# Altium footprint library WR-MPC5.PcbLib: 52 footprints (part 2 of 4)
Each footprint in its own frame and in the unit in brackets; x right, y up, seen from the top. Pads: shape width x height; smd on the part's side, far side on the other; paste and mask are expansions set on the pad; w line width, h text height; cw(c..) or ccw(c..) is an arc to the next point about the centre after c.
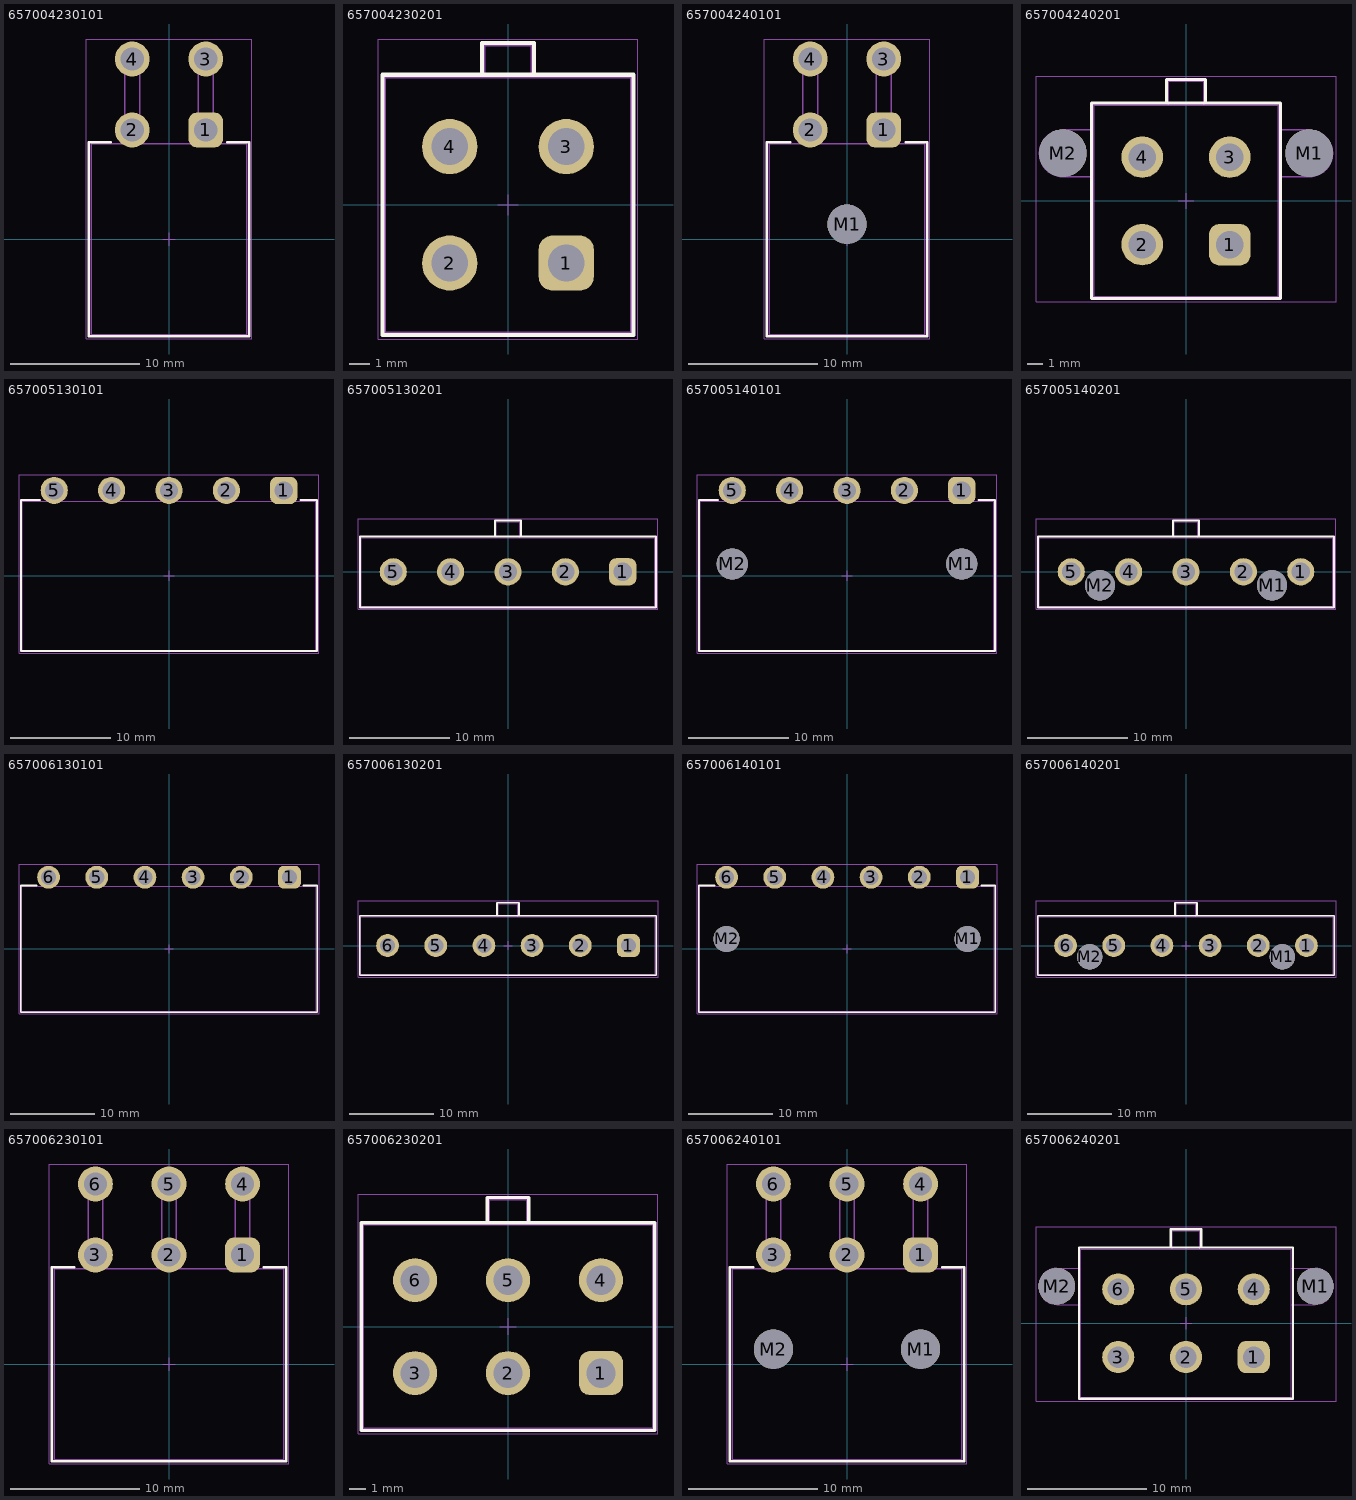
[diagram p1: the footprints below, top view; thin cyan lines are the x and y axes]

## 657004230101 [mm] "Dual Row Male Header Right Angled, GW, THT, 04p"
height 14.53
pads (4):
  rrect50% 2.7x2.7 hole 1.8: 1(2.85,8.47)
  round 2.7 hole 1.8: 2(-2.85,8.47) 3(2.85,13.97) 4(-2.85,13.97)
Top Overlay:
  lines w0.2: -4.5,7.525 -6.225,7.525 -6.225,-7.525 6.225,-7.525 6.225,7.525 4.5,7.525
Top Designator:
  text ".Designator" at -7.498,-0.5 h1.5
Top Component Outline:
  lines w0.1: -3.42,7.4 -3.42,14.54 -2.28,14.54 -2.28,7.4 ; -3.42,9.04 -2.28,9.04 ; 2.28,7.4 2.28,14.54 3.42,14.54 3.42,7.4 ; 2.28,9.04 3.42,9.04 ; -6.025,-7.4 6.025,-7.4 6.025,7.4 -6.025,7.4 -6.025,-7.4
Top Courtyard:
  lines w0.05: -6.425,-7.725 -6.425,15.52 6.425,15.52 6.425,-7.725 -6.425,-7.725
Top Component Center:
  lines w0.05: -0.5,0 0.5,0 ; 0,-0.5 0,0.5
3D body "657004230101.stp": height 14.69, standoff -3.44, extent -6.025,-7.4 6.025,14.54

## 657004230201 [mm] "THT Dual Row Male Header Vertical, 04p"
height 14.8
pads (4):
  rrect50% 2.7x2.7 hole 1.8: 1(2.85,-2.85)
  round 2.7 hole 1.8: 2(-2.85,-2.85) 3(2.85,2.85) 4(-2.85,2.85)
Top Overlay:
  lines w0.2: -1.275,6.365 -1.275,7.915 1.275,7.915 1.275,6.365 ; -6.15,-6.365 -6.15,6.365 6.15,6.365 6.15,-6.365 -6.15,-6.365
Top Designator:
  text ".Designator" at -7.498,-0.5 h1.5
Top Component Outline:
  lines w0.1: -1.15,6.24 -1.15,7.79 1.15,7.79 1.15,6.24 ; -6.025,-6.24 -6.025,6.24 6.025,6.24 6.025,-6.24 -6.025,-6.24
Top Courtyard:
  lines w0.05: -6.35,-6.565 6.35,-6.565 6.35,8.115 -6.35,8.115 -6.35,-6.565
Top Component Center:
  lines w0.05: -0.5,0 0.5,0 ; 0,-0.5 0,0.5
3D body "657004230201.stp": height 14.85, standoff -3.65, extent -6.025,-6.24 6.025,7.79

## 657004240101 [mm] "Dual Row Male Header Right Angled, GW, THT, 04p"
height 14.53
pads (5):
  rrect50% 2.7x2.7 hole 1.8: 1(2.85,8.47)
  round 2.7 hole 1.8: 2(-2.85,8.47) 3(2.85,13.97) 4(-2.85,13.97)
  round 3.05 hole 3.05 unplated: M1(0,1.17)
Top Overlay:
  lines w0.2: -4.4,7.525 -6.225,7.525 -6.225,-7.525 6.225,-7.525 6.225,7.525 4.55,7.525
Top Designator:
  text ".Designator" at -7.498,-0.5 h1.5
Top Component Outline:
  lines w0.1: -3.42,7.4 -3.42,14.54 -2.28,14.54 -2.28,7.4 ; -3.42,9.04 -2.28,9.04 ; 2.28,7.4 2.28,14.54 3.42,14.54 3.42,7.4 ; 2.28,9.04 3.42,9.04 ; -6.025,-7.4 6.025,-7.4 6.025,7.4 -6.025,7.4 -6.025,-7.4
Top Courtyard:
  lines w0.05: -6.425,-7.725 -6.425,15.52 6.425,15.52 6.425,-7.725 -6.425,-7.725
Top Component Center:
  lines w0.05: -0.5,0 0.5,0 ; 0,-0.5 0,0.5
3D body "657004240101.stp": height 14.69, standoff -3.44, extent -6.025,-7.4 6.025,14.54

## 657004240201 [mm] "THT Dual Row Male Header Vertical with Pegs, 04p"
height 14.8
pads (6):
  rrect50% 2.7x2.7 hole 1.8: 1(2.85,-2.85)
  round 2.7 hole 1.8: 2(-2.85,-2.85) 3(2.85,2.85) 4(-2.85,2.85)
  round 3.1 hole 3.1 unplated: M1(8.02,3.11) M2(-8.02,3.11)
Top Overlay:
  lines w0.2: -1.275,6.365 -1.275,7.915 1.275,7.915 1.275,6.365 ; -6.15,-6.365 -6.15,6.365 6.15,6.365 6.15,-6.365 -6.15,-6.365
Top Designator:
  text ".Designator" at -7.498,-0.5 h1.5
Top Component Outline:
  lines w0.1: -9.542,3 cw(c-8.015,3.09) -8.015,4.62 -6.025,4.62 ; -9.542,3.19 ccw(c-8.015,3.1) -8.015,1.57 -6.025,1.57 ; -1.15,6.24 -1.15,7.79 1.15,7.79 1.15,6.24 ; 6.025,1.57 8.015,1.57 ccw(c8.015,3.1) 9.542,3.19 ; 6.025,4.62 8.015,4.62 cw(c8.015,3.09) 9.542,3 ; -6.025,-6.24 -6.025,6.24 6.025,6.24 6.025,-6.24 -6.025,-6.24
Top Courtyard:
  lines w0.05: -9.77,-6.565 9.77,-6.565 9.77,8.115 -9.77,8.115 -9.77,-6.565
Top Component Center:
  lines w0.05: -0.5,0 0.5,0 ; 0,-0.5 0,0.5
3D body "657004240201.stp": height 14.85, standoff -3.65, extent -9.55,-6.24 9.55,7.79

## 657005130101 [mm] "THT Single Row Male Header Right Angled, 05p"
height 7.25
pads (5):
  rrect50% 2.7x2.7 hole 1.8: 1(11.4,8.47)
  round 2.7 hole 1.8: 2(5.7,8.47) 3(0,8.47) 4(-5.7,8.47) 5(-11.4,8.47)
Top Overlay:
  lines w0.2: -12.8,7.5 -14.7,7.5 -14.7,-7.5 14.7,-7.5 14.7,7.5 13.05,7.5
Top Designator:
  text ".Designator" at -7.498,-0.5 h1.5
Top Component Outline:
  lines w0.1: -11.97,7.4 -11.97,9.04 -10.83,9.04 -10.83,7.4 ; -6.27,7.4 -6.27,9.04 -5.13,9.04 -5.13,7.4 ; -0.57,7.4 -0.57,9.04 0.57,9.04 0.57,7.4 ; 5.13,7.4 5.13,9.04 6.27,9.04 6.27,7.4 ; 10.83,7.4 10.83,9.04 11.97,9.04 11.97,7.4 ; -14.575,-7.4 14.575,-7.4 14.575,7.4 -14.575,7.4 -14.575,-7.4
Top Courtyard:
  lines w0.05: -14.9,-7.7 -14.9,10.02 14.9,10.02 14.9,-7.7 -14.9,-7.7
Top Component Center:
  lines w0.05: -0.5,0 0.5,0 ; 0,-0.5 0,0.5
3D body "657005130101.stp": height 8.85, standoff -3.43, extent -14.575,-7.4 14.575,9.04

## 657005130201 [mm] "Single Row Male Header Vertical, 05p"
height 15.3
pads (5):
  rrect50% 2.7x2.7 hole 1.8: 1(11.4,0)
  round 2.7 hole 1.8: 2(5.7,0) 3(0,0) 4(-5.7,0) 5(-11.4,0)
Top Overlay:
  lines w0.2: -1.3,3.525 -1.3,5.075 1.3,5.075 1.3,3.525 ; -14.7,-3.525 14.7,-3.525 14.7,3.525 -14.7,3.525 -14.7,-3.525
Top Designator:
  text ".Designator" at -7.498,-0.5 h1.5
Top Component Outline:
  lines w0.1: -1.175,3.4 -1.175,4.95 1.175,4.95 1.175,3.4 ; -14.575,-3.4 14.575,-3.4 14.575,3.4 -14.575,3.4 -14.575,-3.4
Top Courtyard:
  lines w0.05: -14.9,-3.725 -14.9,5.275 14.9,5.275 14.9,-3.725 -14.9,-3.725
Top Component Center:
  lines w0.05: -0.5,0 0.5,0 ; 0,-0.5 0,0.5
3D body "657005130201.stp": height 15.35, standoff -3.15, extent -14.575,-3.4 14.575,4.95

## 657005140101 [mm] "THT Single Row Male Header Right Angled, 05p"
height 7.25
pads (7):
  rrect50% 2.7x2.7 hole 1.8: 1(11.4,8.47)
  round 2.7 hole 1.8: 2(5.7,8.47) 3(0,8.47) 4(-5.7,8.47) 5(-11.4,8.47)
  round 3.1 hole 3.1 unplated: M1(11.4,1.17) M2(-11.4,1.17)
Top Overlay:
  lines w0.2: -12.8,7.5 -14.7,7.5 -14.7,-7.5 14.7,-7.5 14.7,7.5 13.05,7.5
Top Designator:
  text ".Designator" at -7.498,-0.5 h1.5
Top Component Outline:
  lines w0.1: -11.97,7.4 -11.97,9.04 -10.83,9.04 -10.83,7.4 ; -6.27,7.4 -6.27,9.04 -5.13,9.04 -5.13,7.4 ; -0.57,7.4 -0.57,9.04 0.57,9.04 0.57,7.4 ; 5.13,7.4 5.13,9.04 6.27,9.04 6.27,7.4 ; 10.83,7.4 10.83,9.04 11.97,9.04 11.97,7.4 ; -14.575,-7.4 -14.575,7.4 14.575,7.4 14.575,-7.4 -14.575,-7.4
Top Courtyard:
  lines w0.05: -14.9,-7.7 14.9,-7.7 14.9,10.02 -14.9,10.02 -14.9,-7.7
Top Component Center:
  lines w0.05: -0.5,0 0.5,0 ; 0,-0.5 0,0.5
3D body "657005140101.stp": height 8.85, standoff -3.43, extent -14.575,-7.4 14.575,9.04

## 657005140201 [mm] "Single Row Male Header Vertical, 05p"
height 15.3
pads (7):
  round 2.7 hole 1.8: 1(11.4,0) 2(5.7,0) 3(0,0) 4(-5.7,0) 5(-11.4,0)
  round 3 hole 3 unplated: M1(8.55,-1.34) M2(-8.55,-1.34)
Top Overlay:
  lines w0.2: -1.3,3.525 -1.3,5.075 1.3,5.075 1.3,3.525 ; -14.7,-3.525 -14.7,3.525 14.7,3.525 14.7,-3.525 -14.7,-3.525
Top Designator:
  text ".Designator" at -7.498,-0.5 h1.5
Top Component Outline:
  lines w0.1: -1.175,3.4 -1.175,4.95 1.175,4.95 1.175,3.4 ; -14.575,-3.4 -14.575,3.4 14.575,3.4 14.575,-3.4 -14.575,-3.4
Top Courtyard:
  lines w0.05: -14.9,-3.725 14.9,-3.725 14.9,5.275 -14.9,5.275 -14.9,-3.725
Top Component Center:
  lines w0.05: -0.5,0 0.5,0 ; 0,-0.5 0,0.5
3D body "657005140201.stp": height 15.35, standoff -3.15, extent -14.575,-3.4 14.575,4.95

## 657006130101 [mm] "THT Single Row Male Header Right Angled, 06p"
height 7.25
pads (6):
  rrect50% 2.7x2.7 hole 1.8: 1(14.25,8.47)
  round 2.7 hole 1.8: 2(8.55,8.47) 3(2.85,8.47) 4(-2.85,8.47) 5(-8.55,8.47) 6(-14.25,8.47)
Top Overlay:
  lines w0.2: -15.65,7.5 -17.55,7.5 -17.55,-7.5 17.55,-7.5 17.55,7.5 15.9,7.5
Top Designator:
  text ".Designator" at -7.498,-0.5 h1.5
Top Component Outline:
  lines w0.1: -14.82,7.4 -14.82,9.04 -13.68,9.04 -13.68,7.4 ; -9.12,7.4 -9.12,9.04 -7.98,9.04 -7.98,7.4 ; -3.42,7.4 -3.42,9.04 -2.28,9.04 -2.28,7.4 ; 2.28,7.4 2.28,9.04 3.42,9.04 3.42,7.4 ; 7.98,7.4 7.98,9.04 9.12,9.04 9.12,7.4 ; 13.68,7.4 13.68,9.04 14.82,9.04 14.82,7.4 ; -17.425,-7.4 -17.425,7.4 17.425,7.4 17.425,-7.4 -17.425,-7.4
Top Courtyard:
  lines w0.05: -17.75,-7.7 17.75,-7.7 17.75,10.02 -17.75,10.02 -17.75,-7.7
Top Component Center:
  lines w0.05: -0.5,0 0.5,0 ; 0,-0.5 0,0.5
3D body "657006130101.stp": height 8.85, standoff -3.43, extent -17.425,-7.4 17.425,9.04

## 657006130201 [mm] "Single Row Male Header Vertical, 06p"
height 15.3
pads (6):
  rrect50% 2.7x2.7 hole 1.8: 1(14.25,0)
  round 2.7 hole 1.8: 2(8.55,0) 3(2.85,0) 4(-2.85,0) 5(-8.55,0) 6(-14.25,0)
Top Overlay:
  lines w0.2: -1.3,3.525 -1.3,5.075 1.3,5.075 1.3,3.525 ; -17.55,-3.525 17.55,-3.525 17.55,3.525 -17.55,3.525 -17.55,-3.525
Top Designator:
  text ".Designator" at -7.498,-0.5 h1.5
Top Component Outline:
  lines w0.1: -1.175,3.4 -1.175,4.95 1.175,4.95 1.175,3.4 ; -17.425,-3.4 17.425,-3.4 17.425,3.4 -17.425,3.4 -17.425,-3.4
Top Courtyard:
  lines w0.05: -17.75,-3.725 -17.75,5.275 17.75,5.275 17.75,-3.725 -17.75,-3.725
Top Component Center:
  lines w0.05: -0.5,0 0.5,0 ; 0,-0.5 0,0.5
3D body "657006130201.stp": height 15.35, standoff -3.15, extent -17.425,-3.4 17.425,4.95

## 657006140101 [mm] "THT Single Row Male Header Right Angled, 06p"
height 7.25
pads (8):
  rrect50% 2.7x2.7 hole 1.8: 1(14.25,8.47)
  round 2.7 hole 1.8: 2(8.55,8.47) 3(2.85,8.47) 4(-2.85,8.47) 5(-8.55,8.47) 6(-14.25,8.47)
  round 3.1 hole 3.1 unplated: M1(14.25,1.17) M2(-14.25,1.17)
Top Overlay:
  lines w0.2: -15.65,7.5 -17.55,7.5 -17.55,-7.5 17.55,-7.5 17.55,7.5 15.9,7.5
Top Designator:
  text ".Designator" at -7.498,-0.5 h1.5
Top Component Outline:
  lines w0.1: -14.82,7.4 -14.82,9.04 -13.68,9.04 -13.68,7.4 ; -9.12,7.4 -9.12,9.04 -7.98,9.04 -7.98,7.4 ; -3.42,7.4 -3.42,9.04 -2.28,9.04 -2.28,7.4 ; 2.28,7.4 2.28,9.04 3.42,9.04 3.42,7.4 ; 7.98,7.4 7.98,9.04 9.12,9.04 9.12,7.4 ; 13.68,7.4 13.68,9.04 14.82,9.04 14.82,7.4 ; -17.425,-7.4 17.425,-7.4 17.425,7.4 -17.425,7.4 -17.425,-7.4
Top Courtyard:
  lines w0.05: -17.75,-7.7 -17.75,10.02 17.75,10.02 17.75,-7.7 -17.75,-7.7
Top Component Center:
  lines w0.05: -0.5,0 0.5,0 ; 0,-0.5 0,0.5
3D body "657006140101.stp": height 8.85, standoff -3.43, extent -17.425,-7.4 17.425,9.04

## 657006140201 [mm] "Single Row Male Header Vertical, 06p"
height 15.3
pads (8):
  round 2.7 hole 1.8: 1(14.25,0) 2(8.55,0) 3(2.85,0) 4(-2.85,0) 5(-8.55,0) 6(-14.25,0)
  round 3 hole 3 unplated: M1(11.4,-1.34) M2(-11.4,-1.34)
Top Overlay:
  lines w0.2: -1.3,3.525 -1.3,5.075 1.3,5.075 1.3,3.525 ; -17.55,-3.525 17.55,-3.525 17.55,3.525 -17.55,3.525 -17.55,-3.525
Top Designator:
  text ".Designator" at -7.498,-0.5 h1.5
Top Component Outline:
  lines w0.1: -1.175,3.4 -1.175,4.95 1.175,4.95 1.175,3.4 ; -17.425,-3.4 17.425,-3.4 17.425,3.4 -17.425,3.4 -17.425,-3.4
Top Courtyard:
  lines w0.05: -17.75,-3.725 -17.75,5.275 17.75,5.275 17.75,-3.725 -17.75,-3.725
Top Component Center:
  lines w0.05: -0.5,0 0.5,0 ; 0,-0.5 0,0.5
3D body "657006140201.stp": height 15.35, standoff -3.15, extent -17.425,-3.4 17.425,4.95

## 657006230101 [mm] "Dual Row Male Header Right Angled, GW, THT, 06p"
height 14.53
pads (6):
  rrect50% 2.7x2.7 hole 1.8: 1(5.7,8.47)
  round 2.7 hole 1.8: 2(0,8.47) 3(-5.7,8.47) 4(5.7,13.97) 5(0,13.97) 6(-5.7,13.97)
Top Overlay:
  lines w0.2: -7.35,7.525 -9.075,7.525 -9.075,-7.525 9.075,-7.525 9.075,7.525 7.35,7.525
Top Designator:
  text ".Designator" at -7.498,-0.5 h1.5
Top Component Outline:
  lines w0.1: -6.27,7.4 -6.27,14.54 -5.13,14.54 -5.13,7.4 ; -6.27,9.04 -5.13,9.04 ; -0.57,7.4 -0.57,14.54 0.57,14.54 0.57,7.4 ; -0.57,9.04 0.57,9.04 ; 5.13,7.4 5.13,14.54 6.27,14.54 6.27,7.4 ; 5.13,9.04 6.27,9.04 ; -8.875,-7.4 -8.875,7.4 8.875,7.4 8.875,-7.4 -8.875,-7.4
Top Courtyard:
  lines w0.05: -9.275,-7.725 9.275,-7.725 9.275,15.52 -9.275,15.52 -9.275,-7.725
Top Component Center:
  lines w0.05: -0.5,0 0.5,0 ; 0,-0.5 0,0.5
3D body "657006230101.stp": height 14.69, standoff -3.44, extent -8.875,-7.4 8.875,14.54

## 657006230201 [mm] "THT Dual Row Male Header Vertical, 06p"
height 14.8
pads (6):
  rrect50% 2.7x2.7 hole 1.8: 1(5.7,-2.85)
  round 2.7 hole 1.8: 2(0,-2.85) 3(-5.7,-2.85) 4(5.7,2.85) 5(0,2.85) 6(-5.7,2.85)
Top Overlay:
  lines w0.2: -1.275,6.365 -1.275,7.915 1.275,7.915 1.275,6.365 ; -9,-6.365 -9,6.365 9,6.365 9,-6.365 -9,-6.365
Top Designator:
  text ".Designator" at -7.498,-0.5 h1.5
Top Component Outline:
  lines w0.1: -1.15,6.24 -1.15,7.79 1.15,7.79 1.15,6.24 ; -8.875,-6.24 -8.875,6.24 8.875,6.24 8.875,-6.24 -8.875,-6.24
Top Courtyard:
  lines w0.05: -9.2,-6.565 9.2,-6.565 9.2,8.115 -9.2,8.115 -9.2,-6.565
Top Component Center:
  lines w0.05: -0.5,0 0.5,0 ; 0,-0.5 0,0.5
3D body "657006230201.stp": height 14.85, standoff -3.65, extent -8.875,-6.24 8.875,7.79

## 657006240101 [mm] "Dual Row Male Header Right Angled, GW, THT, 06p"
height 14.53
pads (8):
  rrect50% 2.7x2.7 hole 1.8: 1(5.7,8.47)
  round 2.7 hole 1.8: 2(0,8.47) 3(-5.7,8.47) 4(5.7,13.97) 5(0,13.97) 6(-5.7,13.97)
  round 3.05 hole 3.05 unplated: M1(5.7,1.17) M2(-5.7,1.17)
Top Overlay:
  lines w0.2: -7.25,7.525 -9.075,7.525 -9.075,-7.525 9.075,-7.525 9.075,7.525 7.4,7.525
Top Designator:
  text ".Designator" at -7.498,-0.5 h1.5
Top Component Outline:
  lines w0.1: -6.27,7.4 -6.27,14.54 -5.13,14.54 -5.13,7.4 ; -6.27,9.04 -5.13,9.04 ; -0.57,7.4 -0.57,14.54 0.57,14.54 0.57,7.4 ; -0.57,9.04 0.57,9.04 ; 5.13,7.4 5.13,14.54 6.27,14.54 6.27,7.4 ; 5.13,9.04 6.27,9.04 ; -8.875,-7.4 -8.875,7.4 8.875,7.4 8.875,-7.4 -8.875,-7.4
Top Courtyard:
  lines w0.05: -9.275,-7.725 -9.275,15.52 9.275,15.52 9.275,-7.725 -9.275,-7.725
Top Component Center:
  lines w0.05: -0.5,0 0.5,0 ; 0,-0.5 0,0.5
3D body "657006240101.stp": height 14.69, standoff -3.44, extent -8.875,-7.4 8.875,14.54

## 657006240201 [mm] "THT Dual Row Male Header Vertical with Pegs, 06p"
height 14.8
pads (8):
  rrect50% 2.7x2.7 hole 1.8: 1(5.7,-2.85)
  round 2.7 hole 1.8: 2(0,-2.85) 3(-5.7,-2.85) 4(5.7,2.85) 5(0,2.85) 6(-5.7,2.85)
  round 3.1 hole 3.1 unplated: M1(10.87,3.11) M2(-10.87,3.11)
Top Overlay:
  lines w0.2: -1.275,6.365 -1.275,7.915 1.275,7.915 1.275,6.365 ; -9,-6.365 -9,6.365 9,6.365 9,-6.365 -9,-6.365
Top Designator:
  text ".Designator" at -7.498,-0.5 h1.5
Top Component Outline:
  lines w0.1: -12.392,3 cw(c-10.865,3.09) -10.865,4.62 -8.875,4.62 ; -12.392,3.19 ccw(c-10.865,3.1) -10.865,1.57 -8.875,1.57 ; -1.15,6.24 -1.15,7.79 1.15,7.79 1.15,6.24 ; 8.875,1.57 10.865,1.57 ccw(c10.865,3.1) 12.392,3.19 ; 8.875,4.62 10.865,4.62 cw(c10.865,3.09) 12.392,3 ; -8.875,-6.24 -8.875,6.24 8.875,6.24 8.875,-6.24 -8.875,-6.24
Top Courtyard:
  lines w0.05: -12.62,-6.565 12.62,-6.565 12.62,8.115 -12.62,8.115 -12.62,-6.565
Top Component Center:
  lines w0.05: -0.5,0 0.5,0 ; 0,-0.5 0,0.5
3D body "657006240201.stp": height 14.85, standoff -3.65, extent -12.4,-6.24 12.4,7.79